# Altium schematic symbol library XT90.Schlib: 1 symbol
Pins are listed as number, name and electrical type; pins without a type are passive.

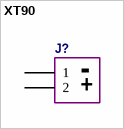
[diagram p0: symbol XT90]

## XT90
designator J?  (value not drawn)
XT90, 2-Pin
pins: 1, 2
text: -; +